# Altium schematic symbol library General.SchLib: 155 symbols (part 2 of 2)
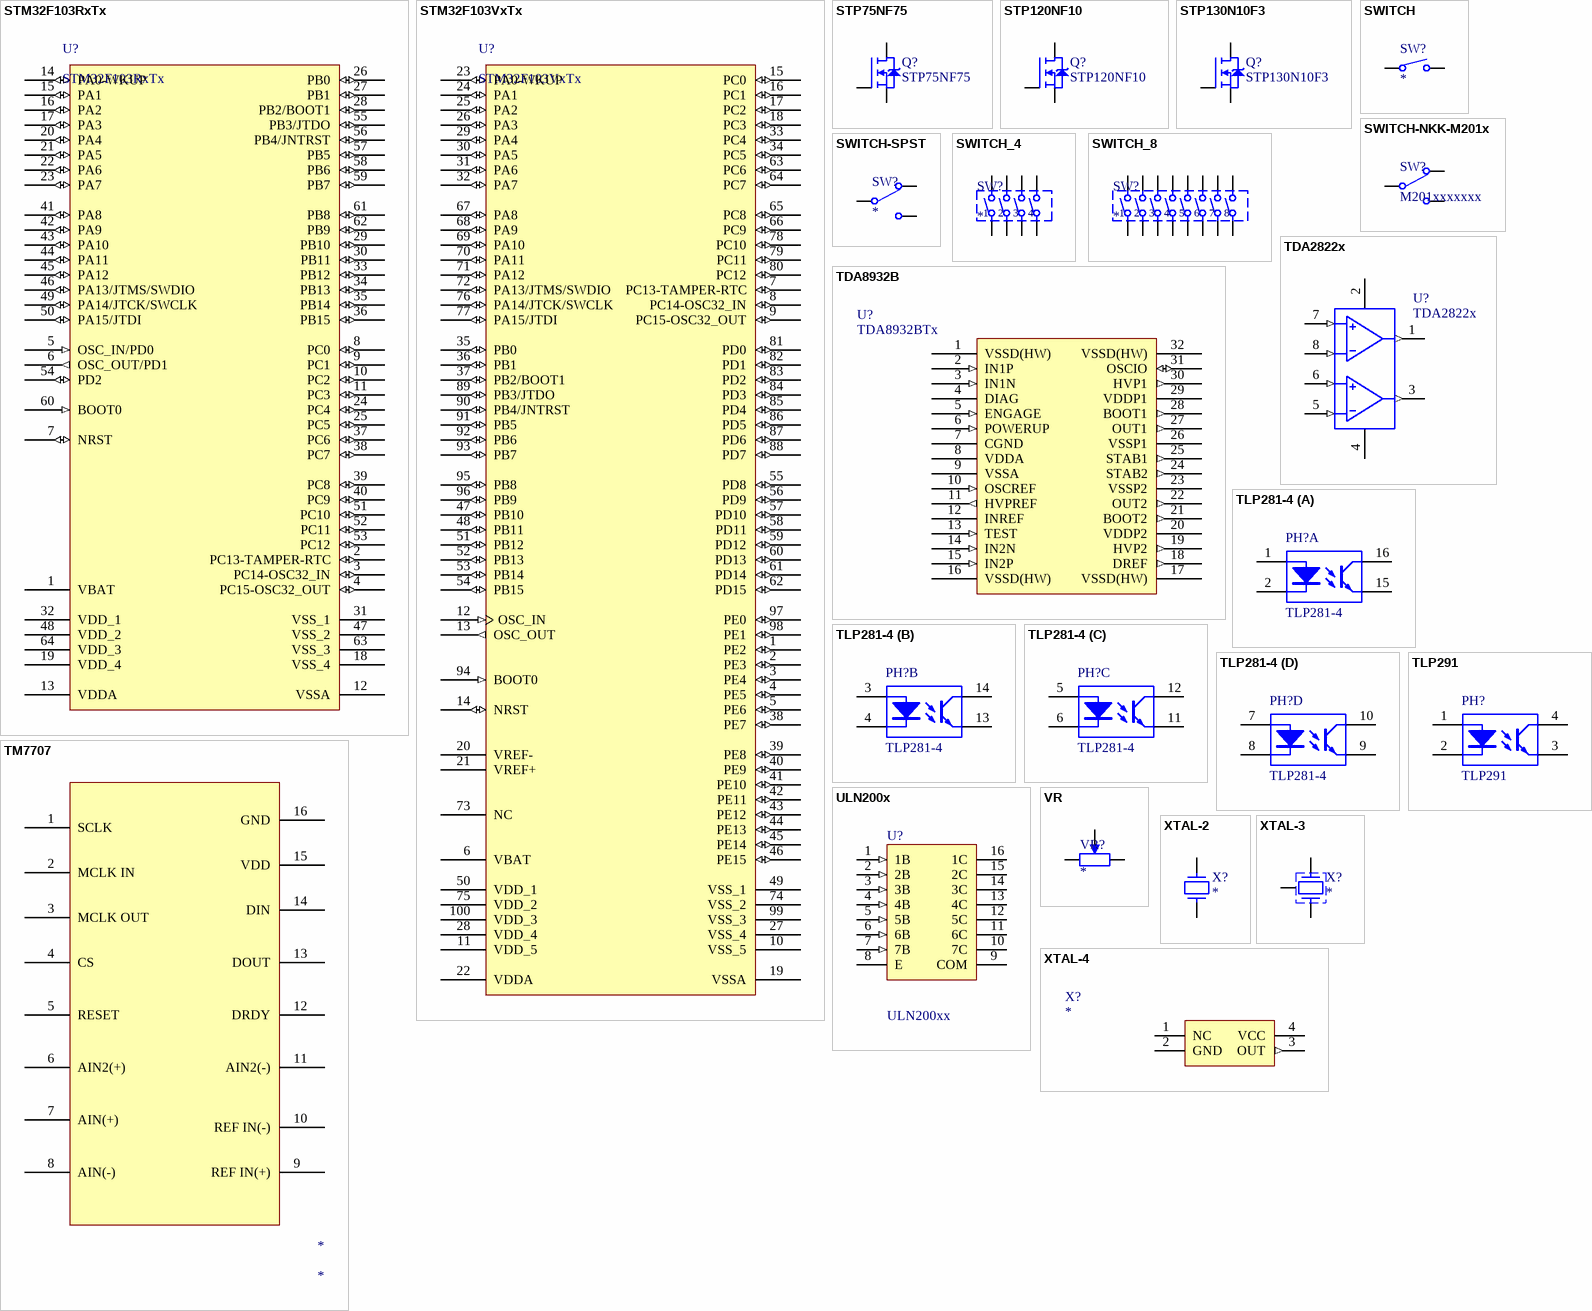
[diagram p8: symbols STM32F103RxTx to XTAL-4]

## STM32F103RxTx
designator U?
MCU
footprint QFP-64-0.5 (QFP-64)
pins: 1 VBAT (power), 2 PC13-TAMPER-RTC (io), 3 PC14-OSC32_IN (io), 4 PC15-OSC32_OUT (io), 5 OSC_IN/PD0 (in), 6 OSC_OUT/PD1 (out), 7 NRST (io), 8 PC0 (io), 9 PC1 (io), 10 PC2 (io), 11 PC3 (io), 12 VSSA (power), 13 VDDA (power), 14 PA0-WKUP (io), 15 PA1 (io), 16 PA2 (io), 17 PA3 (io), 18 VSS_4 (power), 19 VDD_4 (power), 20 PA4 (io), 21 PA5 (io), 22 PA6 (io), 23 PA7 (io), 24 PC4 (io), 25 PC5 (io), 26 PB0 (io), 27 PB1 (io), 28 PB2/BOOT1 (io), 29 PB10 (io), 30 PB11 (io), 31 VSS_1 (power), 32 VDD_1 (power), 33 PB12 (io), 34 PB13 (io), 35 PB14 (io), 36 PB15 (io), 37 PC6 (io), 38 PC7 (io), 39 PC8 (io), 40 PC9 (io), 41 PA8 (io), 42 PA9 (io), 43 PA10 (io), 44 PA11 (io), 45 PA12 (io), 46 PA13/JTMS/SWDIO (io), 47 VSS_2 (power), 48 VDD_2 (power), 49 PA14/JTCK/SWCLK (io), 50 PA15/JTDI (io), 51 PC10 (io), 52 PC11 (io), 53 PC12 (io), 54 PD2 (io), 55 PB3/JTDO (io), 56 PB4/JNTRST (io), 57 PB5 (io), 58 PB6 (io), 59 PB7 (io), 60 BOOT0 (in), 61 PB8 (io), 62 PB9 (io), 63 VSS_3 (power), 64 VDD_3 (power)

## STM32F103VxTx
designator U?
MCU
footprint QFP-100-0.5 (QFP-100)
pins: 1 PE2 (io), 2 PE3 (io), 3 PE4 (io), 4 PE5 (io), 5 PE6 (io), 6 VBAT (power), 7 PC13-TAMPER-RTC (io), 8 PC14-OSC32_IN (io), 9 PC15-OSC32_OUT (io), 10 VSS_5 (power), 11 VDD_5 (power), 12 OSC_IN (in), 13 OSC_OUT (out), 14 NRST (io), 15 PC0 (io), 16 PC1 (io), 17 PC2 (io), 18 PC3 (io), 19 VSSA (power), 20 VREF- (power), 21 VREF+ (power), 22 VDDA (power), 23 PA0-WKUP (io), 24 PA1 (io), 25 PA2 (io), 26 PA3 (io), 27 VSS_4 (power), 28 VDD_4 (power), 29 PA4 (io), 30 PA5 (io), 31 PA6 (io), 32 PA7 (io), 33 PC4 (io), 34 PC5 (io), 35 PB0 (io), 36 PB1 (io), 37 PB2/BOOT1 (io), 38 PE7 (io), 39 PE8 (io), 40 PE9 (io), 41 PE10 (io), 42 PE11 (io), 43 PE12 (io), 44 PE13 (io), 45 PE14 (io), 46 PE15 (io), 47 PB10 (io), 48 PB11 (io), 49 VSS_1 (power), 50 VDD_1 (power), 51 PB12 (io), 52 PB13 (io), 53 PB14 (io), 54 PB15 (io), 55 PD8 (io), 56 PD9 (io), 57 PD10 (io), 58 PD11 (io), 59 PD12 (io), 60 PD13 (io), 61 PD14 (io), 62 PD15 (io), 63 PC6 (io), 64 PC7 (io), 65 PC8 (io), 66 PC9 (io), 67 PA8 (io), 68 PA9 (io), 69 PA10 (io), 70 PA11 (io), 71 PA12 (io), 72 PA13/JTMS/SWDIO (io), 73 NC, 74 VSS_2 (power), 75 VDD_2 (power), 76 PA14/JTCK/SWCLK (io), 77 PA15/JTDI (io), 78 PC10 (io), 79 PC11 (io), 80 PC12 (io), 81 PD0 (io), 82 PD1 (io), 83 PD2 (io), 84 PD3 (io), 85 PD4 (io), 86 PD5 (io), 87 PD6 (io), 88 PD7 (io), 89 PB3/JTDO (io), 90 PB4/JNTRST (io), 91 PB5 (io), 92 PB6 (io), 93 PB7 (io), 94 BOOT0 (in), 95 PB8 (io), 96 PB9 (io), 97 PE0 (io), 98 PE1 (io), 99 VSS_3 (power), 100 VDD_3 (power)

## STP75NF75
designator Q?
N-Channel MOSFET
footprint TO-220-V-1.1 (TO-220, 3PIN)
footprint TO-220-YK-1.1 (TO-220 & YK20)
pins: 1 G, 2 D, 3 S
1 alternate drawing of the same symbol

## STP120NF10
designator Q?
N-Channel MOSFET
footprint TO-220-V-1.1 (TO-220, 3PIN, Vertical)
footprint TO-220-YK-1.1 (TO-220 & YK20, 3PIN, Vertical)
pins: 1 G, 2 D, 3 S
1 alternate drawing of the same symbol

## STP130N10F3
designator Q?
N-Channel MOSFET
footprint TO-220-V-1.1 (TO-220, 3PIN, Vertical)
footprint TO-220-YK-1.1 (TO-220 & YK20, 3PIN, Vertical)
pins: 1 G, 2 D, 3 S
1 alternate drawing of the same symbol

## SWITCH
designator SW?
Switch
pins: 1, 2

## SWITCH-NKK-M201x
designator SW?, comment M201xxxxxxx
Switch
footprint TOGGLE SWITCH-M201x (Toggle switch, SPST, NKK)
pins: 1, 2, 3

## SWITCH-SPST
designator SW?
Switch
footprint TOGGLE SWITCH-SPST (Toggle switch, SPST)
pins: 1, 2, 3

## SWITCH_4
designator SW?
Switch
footprint MCEMR-04-T (DIP SWITCH)
pins: 1, 2, 3, 4, 5, 6, 7, 8

## SWITCH_8
designator SW?
Switch
footprint MCEMR-08-T (DIP SWITCH)
pins: 1, 2, 3, 4, 5, 6, 7, 8, 9, 10, 11, 12, 13, 14, 15, 16

## TDA2822x
designator U?
Power Amplifiers
footprint SO-8 (SOIC, 8PIN)
footprint DIP-8 (Dual In-line Package, 8PIN)
pins: 1 OUT (out), 2 VS (power), 3 OUT (out), 4 GND (power), 5 - (in), 6 + (in), 7 + (in), 8 - (in)

## TDA8932B
designator U?, comment TDA8932BTx
IC
footprint SO-32 (SOIC, 32PIN)
pins: 1 VSSD(HW) (power), 2 IN1P (in), 3 IN1N (in), 4 DIAG (oc), 5 ENGAGE (in), 6 POWERUP (in), 7 CGND (power), 8 VDDA (power), 9 VSSA (power), 10 OSCREF (in), 11 HVPREF (out), 12 INREF, 13 TEST (in), 14 IN2N (in), 15 IN2P (in), 16 VSSD(HW) (power), 17 VSSD(HW) (power), 18 DREF (out), 19 HVP2 (out), 20 VDDP2 (power), 21 BOOT2 (out), 22 OUT2 (out), 23 VSSP2 (power), 24 STAB2 (out), 25 STAB1 (out), 26 VSSP1 (power), 27 OUT1 (out), 28 BOOT1 (out), 29 VDDP1 (power), 30 HVP1 (out), 31 OSCIO (io), 32 VSSD(HW) (power)

## TLP281-4
designator PH?
Optoisolator
footprint SO-16-TL281-4 (SOIC, 16PIN, TL281-4)
part A pins: 1 A, 2 K, 15 E, 16 C
part B pins: 3 A, 4 K, 13 E, 14 C
part C pins: 5 A, 6 K, 11 E, 12 C
part D pins: 7 A, 8 K, 9 E, 10 C

## TLP291
designator PH?
Optoisolator
footprint SO-4 (SOIC, 4PIN)
pins: 1 A, 2 K, 3 E, 4 C

## TM7707
designator *
footprint Model Name (Model Description)
3D model Model Name (Model Description)
3D model Model Name (Model Description)
pins: 1 SCLK, 2 MCLK IN, 3 MCLK OUT, 4 CS, 5 RESET, 6 AIN2(+), 7 AIN(+), 8 AIN(-), 9 REF IN(+), 10 REF IN(-), 11 AIN2(-), 12 DRDY, 13 DOUT, 14 DIN, 15 VDD, 16 GND

## ULN200x
designator U?, comment ULN200xx
Darlington Transistor Arrays
footprint SO-16 (SOIC, 16PIN)
footprint DIP-16 (Dual In-line Package, 16PIN)
pins: 1 1B (in), 2 2B (in), 3 3B (in), 4 4B (in), 5 5B (in), 6 6B (in), 7 7B (in), 8 E (power), 9 COM, 10 7C (oc), 11 6C (oc), 12 5C (oc), 13 4C (oc), 14 3C (oc), 15 2C (oc), 16 1C (oc)

## VR
designator VR?
Variable Resistor
footprint 3314J (Square Trimming Potentiometer)
pins: 1, 2, 3

## XTAL-2
designator X?
Crystal
footprint HC49-SMD (CRYSTAL, SMD)
footprint HC49S (CRYSTAL)
pins: 1, 2

## XTAL-3
designator X?
Crystal
footprint XTAL-3X8 (Crystal)
pins: 1, 2, 3

## XTAL-4
designator X?
Oscillator
footprint XTAL-5.0X3.2 (Oscillator)
pins: 1 NC, 2 GND (power), 3 OUT (out), 4 VCC (power)